# Altium footprint library LED_RGB.PcbLib: 1 footprints
Each footprint in its own frame and in the unit in brackets; x right, y up, seen from the top. Pads: shape width x height; smd on the part's side, far side on the other; paste and mask are expansions set on the pad; w line width, h text height; cw(c..) or ccw(c..) is an arc to the next point about the centre after c.
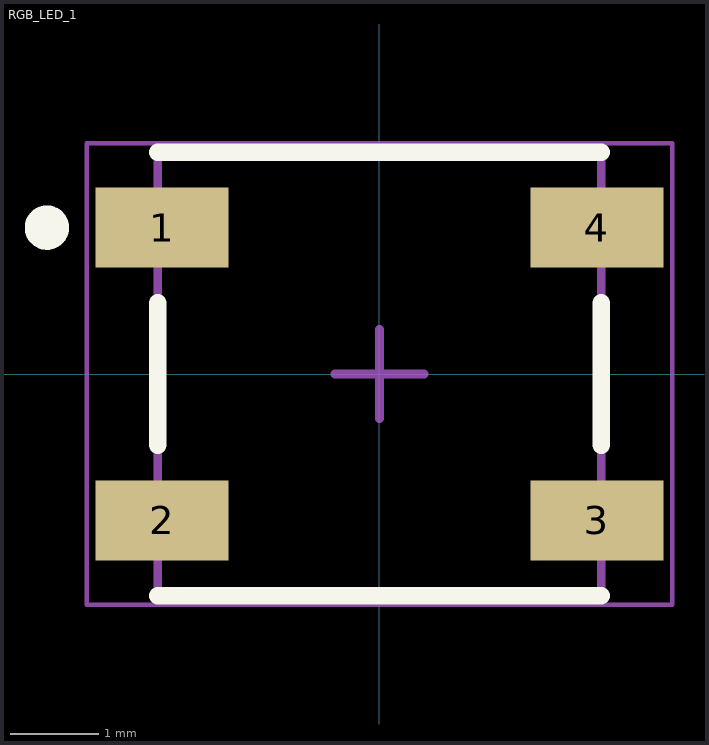
[diagram p0: the footprint, top view; thin cyan lines are the x and y axes]

## RGB_LED_1 [mm]
pads (4):
  rect 1.5x0.9 smd: 1(-2.45,1.65) 2(-2.45,-1.65) 3(2.45,-1.65) 4(2.45,1.65)
Top Overlay:
  circle w0.25: c-3.75,1.65 r0.125
  lines w0.2: -2.5,-2.5 2.5,-2.5 ; -2.5,-0.8 -2.5,0.8 ; -2.5,2.5 2.5,2.5 ; 2.5,-0.8 2.5,0.8
Mechanical 13:
  lines w0.1: -2.5,-2.5 -2.5,2.5 2.5,2.5 2.5,-2.5 -2.5,-2.5
Mechanical 15:
  lines w0.05: -3.3,-2.6 3.3,-2.6 3.3,2.6 -3.3,2.6 -3.3,-2.598
  lines w0.1: -0.5,0 0.5,0 ; 0,-0.5 0,0.5
3D body "User Library-WS2812B.STEP": height 1.69, standoff -0.01, extent -2.7,-2.5 2.7,2.5